# Altium integrated library esp_imu_parts.IntLib: 24 symbols
Pins are listed as number, name and electrical type; pins without a type are passive.

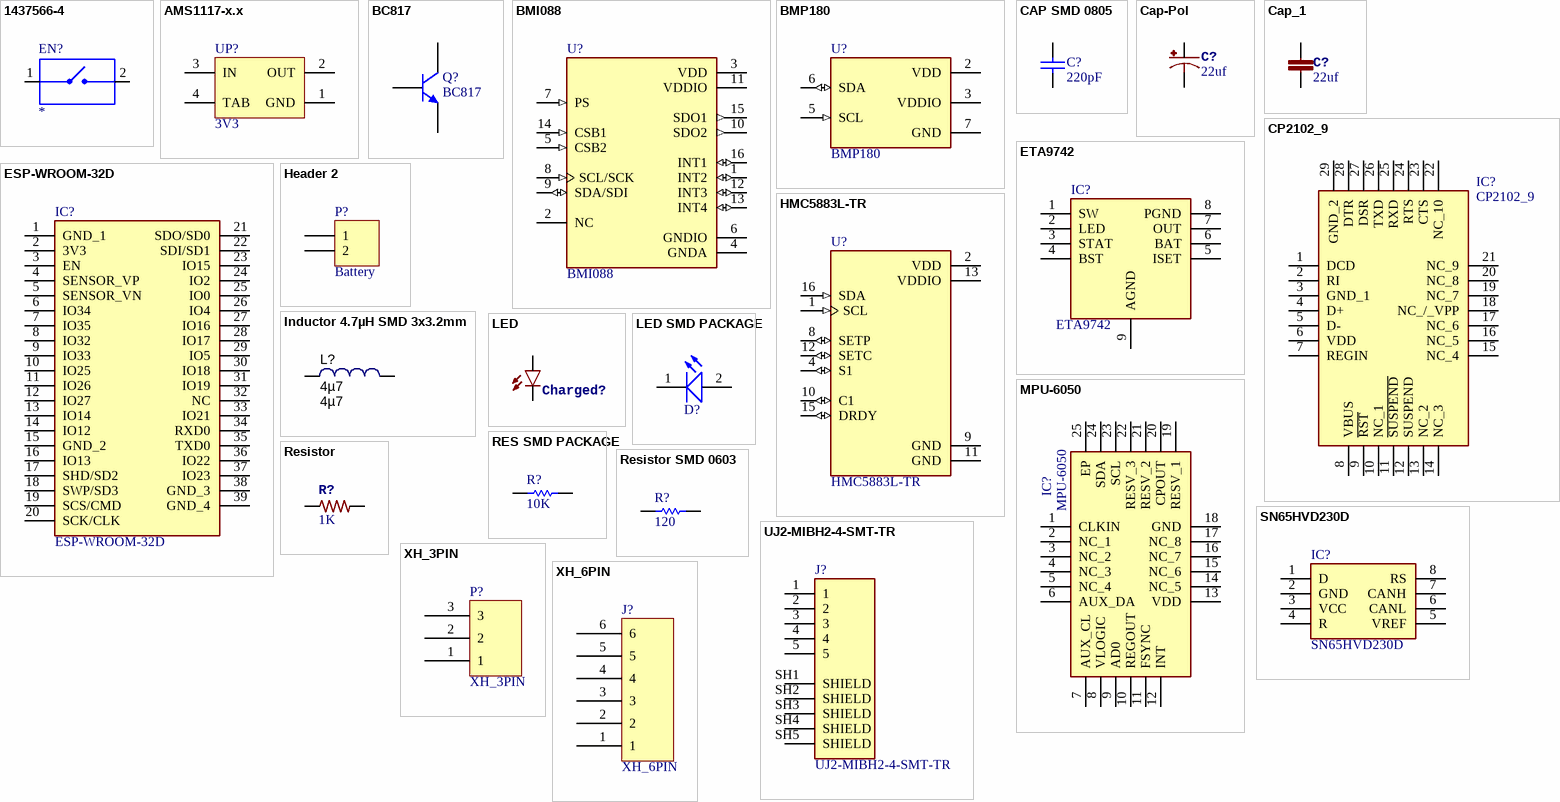
[diagram p0: symbols 1437566-4 to XH_6PIN]

## 1437566-4
designator EN?  (value not drawn)
Switch Tactile OFF _ON_ SPST Rectangular Button Gull Wing 0.05A 12VDC 1.77N SMD T/R; MF: TE Connectivity; Configuration_Pole-Throw: Single Pole - Single Throw; Contact_Current_Rating: 50 mA; MP: FSMSMTR; Package: None; Digi-Key_Part_Number: 450-1758-1-ND; Digi-Key_Purchase_URL: https://www.digikey.com/product-detail/en/te-connectivity-alcoswitch-switches/FSMSMTR/450-1758-1-ND/2271637?utm_source=snapeda&utm_medium=aggregator&utm_campaign=symbol; Value: *; TE_purchase_URL: https://www.te.com/usa-en/product-1437566-4.html?te_bu=Cor&te_type=disp&te_campaign=seda_glo_cor-seda-global-disp-prtnr-fy19-seda-model-bom-cta_sma-317_1&elqCampaignId=32493; SnapEDA_Link: https://www.snapeda.com/parts/FSMSMTR/TE%20Connectivity%20ALCOSWITCH%20Switches/view-part/2118497/?ref=snap; Comment_1: *
footprint SW_1437566-4
pins: 1, 2

## AMS1117-x.x
designator UP?, comment 3V3
x.x Volt, 800mA Low-Dropout Linear Regulator, 4-pin SOT-223; Designer: Ali Hafizi; Data: 16-12-2016
footprint SOT223 (SOT223, 4-Leads, Body 6.5x3.5mm, Pitch 2.30mm-Designer Abbas Basereh)
footprint SOT223_L (SOT223, 4-Leads, Body 6.5x3.5mm, Pitch 2.3mm, Lead Span 7mm, IPC High Density)
footprint SOT223_M (SOT223, 4-Leads, Body 6.5x3.5mm, Pitch 2.3mm, Lead Span 7mm, IPC Low Density)
footprint SOT223_N (SOT223, 4-Leads, Body 6.5x3.5mm, Pitch 2.3mm, Lead Span 7mm, IPC Medium Density)
pins: 1 GND (power), 2 OUT (power), 3 IN (power), 4 TAB (power)

## BC817
designator Q?
45 V, 500 mA NPN general-purpose transistors; Published: 2017-2-8; LatestRevisionDate: 2017; LatestRevisionNote: IPC-7351 Footprint Added.; DatasheetVersion: 2017; PackageVersion: 2017-2-8; PackageReference: SOT23; Publisher: Abbas Basereh; PackageDescription: 3-Pin SOT-23 Package 0.95 mm Pitch, 2.3 mm Lead Span; ComponentLink1Description: Manufacturer Link; ComponentLink1URL: http://www.nxp.com/; ComponentLink2Description: Datasheet; ComponentLink2URL: http://www.nxp.com/
footprint SOT23_N (SOT23, 3-Leads, Body 2.9x1.3mm, Pitch 0.95mm, Lead Span 2.3mm, IPC Medium Density)
footprint SOT23_L (SOT23, 3-Leads, Body 2.9x1.3mm, Pitch 0.95mm, Lead Span 2.3mm, IPC High Density)
footprint SOT23_M (SOT23, 3-Leads, Body 2.9x1.3mm, Pitch 0.95mm, Lead Span 2.3mm, IPC Low Density)
footprint SOT23_BEC_L (SOT23, 3-Leads, Body 2.9x1.3mm, Pitch 0.95mm, Lead Span 2.4mm, IPC High Density)
footprint SOT23_BEC_M (SOT23, 3-Leads, Body 2.9x1.3mm, Pitch 0.95mm, Lead Span 2.4mm, IPC Low Density)
footprint SOT23_BEC_N (SOT23, 3-Leads, Body 2.9x1.3mm, Pitch 0.95mm, Lead Span 2.4mm, IPC Medium Density)
pins: 1 B, 2 E, 3 C

## BMI088
designator U?
Accelerometer, Gyroscope, 6 Axis Sensor IÂ²C, SPI Output; MF: Bosch Sensortec; Package: VFLGA-16 Bosch Sensortec; Purchase-URL: https://pricing.snapeda.com/search/part/BMI088/?ref=eda; Value: *; MP: BMI088; Price: None; SnapEDA_Link: https://www.snapeda.com/parts/BMI088/Bosch%20Sensortec/view-part/2774026/?ref=snap; Check_prices: https://www.snapeda.com/parts/BMI088/Bosch%20Sensortec/view-part/2774026/?ref=eda; Availability: In Stock
footprint PQFN50P450X300X100-16N
pins: 1 INT2 (io), 2 NC, 3 VDD (power), 4 GNDA (power), 5 CSB2 (in), 6 GNDIO (power), 7 PS (in), 8 SCL/SCK (in), 9 SDA/SDI (io), 10 SDO2 (out), 11 VDDIO (power), 12 INT3 (io), 13 INT4 (io), 14 CSB1 (in), 15 SDO1 (out), 16 INT1 (io)

## BMP180
designator U?
Pressure Sensor 4.35PSI ~ 15.95PSI _30kPa ~ 110kPa_ Absolute 16 ~ 19 b 7-VLGA; MF: Bosch Sensortec; Digi-Key_Purchase_URL: https://www.digikey.com/product-detail/en/bosch-sensortec/BMP180/828-1027-1-ND/2688260?utm_source=snapeda&utm_medium=aggregator&utm_campaign=symbol; Digi-Key_Part_Number: 828-1027-1-ND; Package: VLGA-7 Bosch Sensortec; SnapEDA_Link: https://www.snapeda.com/parts/BMP180/Bosch%20Sensortec/view-part/587596/?ref=snap; Value: *; MP: BMP180
footprint BMP180
pins: 2 VDD (power), 3 VDDIO (power), 5 SCL (in), 6 SDA (io), 7 GND (power)

## CAP SMD 0805
designator C?, comment 220pF
CAP 0805; Designer: Abbas Basereh; Desc.: CAP SMD 0805; Data: 16-12-2016
footprint C0603 (CHIP Capacitor, 1.6X0.8mm, 0603 (Make www.tarahiboard.com))
pins: 1, 2

## Cap-Pol
designator C?  value 22uf  (hidden comment: Cap-Pol)
footprint _CPOL-RADIAL-2MM-4MM
footprint _CPOL-RADIAL-2.5MM-5MM
footprint _CPOL-RADIAL-2.5MM-6.5MM
footprint _CPOL-RADIAL-5MM-10MM
footprint _CPOL-RADIAL-5MM-13MM
footprint _CPOL-RADIAL-8MM-17MM
footprint _CPOL-RADIAL-7.5MM-15MM
footprint _CPOL_SMD-4.5MM
footprint _CPOL_SMD-6.8MM
footprint _CPOL_SMD-8.3MM
footprint _EIA3216
footprint _EIA3528
footprint _EIA6032
footprint _EIA7343
pins: +, -

## Cap_1
designator C?, comment value 22uf  (hidden comment: Cap)
footprint _0402
footprint _0603
footprint _0805
footprint _1206
footprint _RAD-0.1
footprint _RAD-0.2
footprint _RAD-0.3
footprint _RAD-0.4
footprint _RAD-0.5
footprint _RAD-0.6
footprint _RAD-0.7 (22.60mm)
pins: 1, 2

## CP2102_9
designator IC?
Integrated Circuit; Manufacturer_Name: Silicon Labs; Manufacturer_Part_Number: CP2102/9; Datasheet Link: https://www.silabs.com/documents/public/data-sheets/CP2102-9.pdf; Height: 1.05mm
footprint QFN50P500X500X105-29N-D
pins: 1 DCD, 2 RI, 3 GND_1, 4 D+, 5 D-, 6 VDD, 7 REGIN, 8 VBUS, 9 ~{RST}, 10 NC_1, 11 ~{SUSPEND}, 12 SUSPEND, 13 NC_2, 14 NC_3, 15 NC_4, 16 NC_5, 17 NC_6, 18 NC_/_VPP, 19 NC_7, 20 NC_8, 21 NC_9, 22 NC_10, 23 CTS, 24 RTS, 25 RXD, 26 TXD, 27 DSR, 28 DTR, 29 GND_2

## ESP-WROOM-32D
designator IC?
Integrated Circuit; Manufacturer_Name: Espressif Systems; Datasheet Link: https://componentsearchengine.com/Datasheets/1/ESP-WROOM-32D.pdf; Height: 3.2mm; Manufacturer_Part_Number: ESP-WROOM-32D; Mouser Part Number: 356-ESP-WROOM-32D; Mouser Price/Stock: https://www.mouser.co.uk/ProductDetail/Espressif-Systems/ESP-WROOM-32D?qs=MLItCLRbWsyWVKgdQMcFuQ%3D%3D
footprint ESPWROOM32D
pins: 1 GND_1, 2 3V3, 3 EN, 4 SENSOR_VP, 5 SENSOR_VN, 6 IO34, 7 IO35, 8 IO32, 9 IO33, 10 IO25, 11 IO26, 12 IO27, 13 IO14, 14 IO12, 15 GND_2, 16 IO13, 17 SHD/SD2, 18 SWP/SD3, 19 SCS/CMD, 20 SCK/CLK, 21 SDO/SD0, 22 SDI/SD1, 23 IO15, 24 IO2, 25 IO0, 26 IO4, 27 IO16, 28 IO17, 29 IO5, 30 IO18, 31 IO19, 32 NC, 33 IO21, 34 RXD0, 35 TXD0, 36 IO22, 37 IO23, 38 GND_3, 39 GND_4

## ETA9742
designator IC?
Integrated Circuit; Manufacturer_Name: ETA Solutions; Datasheet Link: https://cdn.datasheetspdf.com/pdf-down/E/T/A/ETA9742-ETA.pdf; Height: 1.75mm; Manufacturer_Part_Number: ETA9742
footprint SOIC127P600X175-9N
pins: 1 SW, 2 LED, 3 STAT, 4 BST, 5 ISET, 6 BAT, 7 OUT, 8 PGND, 9 AGND

## Header 2
designator P?, comment Battery
Header, 2-Pin; LatestRevisionDate: 17-Jul-2002; LatestRevisionNote: Re-released for DXP Platform.; Publisher: Altium Limited
footprint HDR1X2 (Connector; Header; 2 Position)
signal-integrity model Connector
pins: 1, 2

## HMC5883L-TR
designator U?
Magnetoresistive Sensor X, Y, Z Axis 16-LCC; MF: Honeywell; MP: HMC5883LTR; Availability: Unavailable; Value: *; SnapEDA_Link: https://www.snapeda.com/parts/HMC5883LTR/Honeywell/view-part/1099769/?ref=snap; Price: None; Package: LCC-16 Honeywell
footprint XDCR_HMC5883L-TR
pins: 1 SCL (in), 2 VDD (power), 4 S1 (io), 8 SETP (io), 9 GND (power), 10 C1 (io), 11 GND (power), 12 SETC (io), 13 VDDIO (power), 15 DRDY (io), 16 SDA (in)

## Inductor 4.7µH SMD 3x3.2mm
designator L?, comment 4µ7
Inductor 4.7µH SMD 3x3.2mm; Tolerance: ±20%; Type: Ferrite Core; SCDType: source; Package / Case: Inductor 4.7µH SMD 3x3.2mm; Supplier 1: Digi-Key; Operating Temperature: -40°C ~ 125°C; Value: 4µ7
footprint Inductor SMD 3x3.2mm (Inductor 4.7µH SMD 3x3.2mm)
pins: 1, 2

## LED
designator Charged?  (value not drawn)
PROD_ID: DIO-09955
footprint _LED-0603
footprint _LED-0805
footprint _LED-1206
footprint _LED_3MM
footprint _LED_5MM
footprint _LED_10MM
pins: A, K

## LED SMD PACKAGE
designator D?  (value not drawn)
SMD Mono-color Chip LED Waterclear; Part Number: 150080BS75000; Peak Wavelength: 465 nm; Forward Voltage: 3.2 V; Published Date: Jan 2017; Publisher: Ali Hafizi
footprint LED_SMD_0603 (SMD Mono-color Chip LED, body 1.6x0.8mm)
footprint LED_SMD_0805 (SMD Mono-color Chip LED, body 2.0x1.25mm)
footprint LED_SMD_1206 (SMD Mono-color Chip LED, body 3.2x1.6mm)
pins: 1 K, 2 A

## MPU-6050
designator IC?
Integrated Circuit; Manufacturer_Name: TDK; Datasheet Link: https://datasheet.lcsc.com/szlcsc/TDK-InvenSense-MPU-6050_C24112.pdf; Height: 0.95mm; Manufacturer_Part_Number: MPU-6050; Mouser Part Number: 410-MPU-6050; Mouser Price/Stock: https://www.mouser.co.uk/ProductDetail/TDK-InvenSense/MPU-6050?qs=u4fy%2FsgLU9O14B5JgyQFvg%3D%3D; Arrow Part Number: MPU-6050; Arrow Price/Stock: https://www.arrow.com/en/products/mpu-6050/invensense?region=nac
footprint QFN50P400X400X95-25N
pins: 1 CLKIN, 2 NC_1, 3 NC_2, 4 NC_3, 5 NC_4, 6 AUX_DA, 7 AUX_CL, 8 VLOGIC, 9 AD0, 10 REGOUT, 11 FSYNC, 12 INT, 13 VDD, 14 NC_5, 15 NC_6, 16 NC_7, 17 NC_8, 18 GND, 19 RESV_1, 20 CPOUT, 21 RESV_2, 22 RESV_3, 23 SCL, 24 SDA, 25 EP

## RES SMD PACKAGE
designator R?, comment 10K
TOTAL SMD RESISTOR PACK; Designer: Abbas Basereh; Desc.: RES SMD PAKAGES; Data: 2017-3-10
footprint RES0201 (Chip Resistor, 2-Leads, Body 0/60x0/30mm, IPC Medium Density DESIGNER:ABBAS BASEREH)
footprint RES0402 (Chip Resistor, 2-Leads, Body 1/00x0/50mm, IPC Medium Density DESIGNER:ABBAS BASEREH)
footprint RES0603 (Chip Resistor, 2-Leads, Body 1/60x0/80mm, IPC Medium Density DESIGNER:ABBAS BASEREH)
footprint RES0805 (Chip Resistor, 2-Leads, Body 2/00x1/25mm, IPC Medium Density DESIGNER:ABBAS BASEREH)
footprint RES1206 (Chip Resistor, 2-Leads, Body 3/20x1/60mm, IPC Medium Density DESIGNER:ABBAS BASEREH)
footprint RES1210 (Chip Resistor, 2-Leads, Body 3/20x2/50mm, IPC Medium Density DESIGNER:ABBAS BASEREH)
footprint RES1812 (Chip Resistor, 2-Leads, Body 4/50x3/20mm, IPC Medium Density DESIGNER:ABBAS BASEREH)
footprint RES2010 (Chip Resistor, 2-Leads, Body 5/00x2/50mm, IPC Medium Density DESIGNER:ABBAS BASEREH)
footprint RES2512 (Chip Resistor, 2-Leads, Body 6/40x3/20mm, IPC Medium Density DESIGNER:ABBAS BASEREH)
footprint RES0201_(0603X03L) (Chip Resistor, 2-Leads, Body 0.6x0.3mm, IPC High Density (0.05 W))
footprint RES0402_(1005X04L) (Chip Resistor, 2-Leads, Body 1.0x0.5mm, IPC High Density _ (0.031/0.063 W))
footprint RES0603_(1608X06L) (Chip Resistor, 2-Leads, Body 1.6x0.8mm, IPC High Density _ (0.063W))
footprint RES0805_(2012X06L) (Chip Resistor, 2-Leads, Body 2.0x1.3mm, IPC High Density _ (0.100 W))
footprint RES1206 _(3216X08L) (Chip Resistor, 2-Leads, Body 3.2x1.6mm, IPC High Density _ (0.125 W))
footprint RES1210_(3226X07L) (Chip Resistor, 2-Leads, Body 3.2x2.6mm, IPC High Density _ (0.250 W))
footprint RES1217_(3042X09L) (Chip Resistor, 2-Leads, Body 3.0x4.2mm, IPC High Density _ (0.250 W))
footprint RES2010_(5026X08L) (Chip Resistor, 2-Leads, Body 5.0x2.6mm, IPC High Density _ (0.250 W))
footprint RES2020_(5151X09L) (Chip Resistor, 2-Leads, Body 5.1x5.1mm, IPC High Density _ (0.5 W))
footprint RES2045_(50115X09L) (Chip Resistor, 2-Leads, Body 5.0x11.5mm, IPC High Density _ (1.0 W))
footprint RES2512_(6331X07L) (Chip Resistor, 2-Leads, Body 6.3x3.1mm, IPC High Density _ (0.500 W))
pins: 1, 2

## Resistor
designator R?  value 1K  (hidden comment: Resistor)
footprint _0402
footprint _0603
footprint _0805
footprint _1206
footprint _1210
footprint _2010
footprint _AXIAL-0.1
footprint _AXIAL-0.3
footprint _AXIAL-0.4
footprint _AXIAL-0.5
footprint _AXIAL-0.6
footprint _AXIAL-0.7
pins: 1, 2

## Resistor SMD 0603
designator R?  value 120  (hidden comment: Resistor SMD 0603)
DatasheetVersion: 2021; ComponentLink1Description: Website: Tarahiboard; ComponentLink1URL: https://www.tarahiboard.com/; ComponentLink2Description: Telegram; ComponentLink2URL: https://t.me/tarahiboard; ComponentLink3Description: Instagram; ComponentLink3URL: https://instagram.com/tarahiboard
footprint SMD-0603-RES
footprint RESC1608L (0603) (Chip Resistor, Body 1.6x0.8mm, IPC High Density)
footprint RESC1608M (0603) (Chip Resistor, Body 1.6x0.8mm, IPC Low Density)
footprint RESC1608N (0603) (Chip Resistor, Body 1.6x0.8mm, IPC Medium Density)
footprint RES 0603 (1608X06L) (Chip Resistor, 2-Leads, Body 1.6x0.8mm, IPC High Density _ (0.063W))
footprint R0603 (CHIP Resistor 1/10 WATT, 1.6x0.8mm, 0603, 1608)
footprint R0603E (CHIP Resistor 1/10 WATT, 1.6x0.8mm, 0603, EXPANDED PAD)
footprint R0603O (CHIP Resistor 1/10 WATT, 1.6x0.8mm, 0603, OPTIMIZED)
pins: 1, 2

## SN65HVD230D
designator IC?
Integrated Circuit; Manufacturer_Name: Texas Instruments; Datasheet Link: http://www.ti.com/lit/ds/symlink/sn65hvd230.pdf; Height: 1.75mm; Manufacturer_Part_Number: SN65HVD230D; Mouser Part Number: 595-SN65HVD230D; Mouser Price/Stock: https://www.mouser.co.uk/ProductDetail/Texas-Instruments/SN65HVD230D?qs=QViXGNcIEAskSxPh50NSwA%3D%3D; Arrow Part Number: SN65HVD230D; Arrow Price/Stock: https://www.arrow.com/en/products/sn65hvd230d/texas-instruments?region=nac
footprint SOIC127P600X175-8N
pins: 1 D, 2 GND, 3 VCC, 4 R, 5 VREF, 6 CANL, 7 CANH, 8 RS

## UJ2-MIBH2-4-SMT-TR
designator J?
Micro B, USB 2.0, 1.8 A, Right Angle, Surface Mount _SMT_, USB Receptacle; MF: CUI Devices; MP: UJ2-MIBH2-4-SMT-TR; SnapEDA_Link: https://www.snapeda.com/parts/UJ2-MIBH2-4-SMT-TR/CUI%20Devices/view-part/702231/?ref=snap; Price: None; Availability: Unavailable; CUI_purchase_URL: https://www.cuidevices.com/product/interconnect/connectors/usb-connectors/uj2-mibh2-4-smt?utm_source=snapeda.com&utm_medium=referral&utm_campaign=snapedaBOM; Package: None; Value: *
footprint CUI_UJ2-MIBH2-4-SMT-TR
pins: 1, 2, 3, 4, 5, SH1 SHIELD, SH2 SHIELD, SH3 SHIELD, SH4 SHIELD, SH5 SHIELD

## XH_3PIN
designator P?
footprint XH_3PIN
pins: 1, 2, 3

## XH_6PIN
designator J?
footprint XH_6PIN
pins: 1, 2, 3, 4, 5, 6